# EAGLE library part AD5241BRZ1M (library AD5241BRZ1M)
I2C Compatible Digital Potentiometer Check prices <https://pricing.snapeda.com/parts/AD5241BRZ1M/Analog%20Devices/view-part?ref=eda>
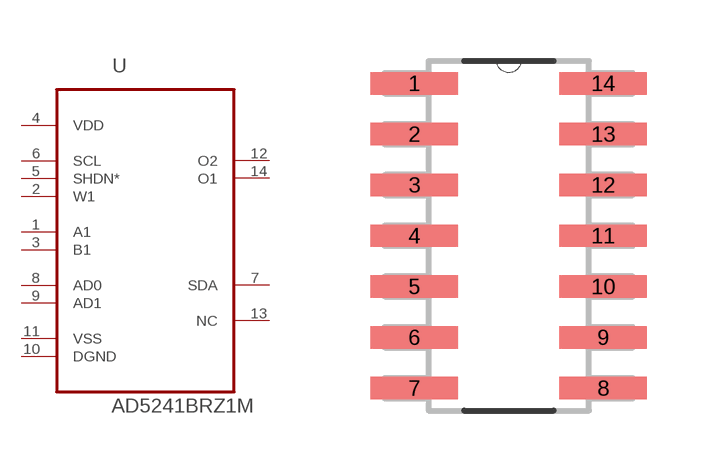
[diagram p0: symbol with the pads of SOIC127P600X175-14N; footprint SOIC127P600X175-14N]

Designator prefix U

## AD5241BRZ1M (Availability: Good; Description: Digital Potentiometer 1M Ohm 1 Circuit 256 Taps I²C Interface 14-SOIC; MF: Analog Devices; MP: AD5241BRZ1M; Package: SOIC-14 Analog Devices; Price: None; Purchase-URL: https://pricing.snapeda.com/search/part/AD5241BRZ1M/?ref=eda)  [SOIC127P600X175-14N]
1  A1  pas
2  W1  pas
3  B1  pas
4  VDD  pwr
5  SHDN*  pas
6  SCL  pas
7  SDA  pas
8  AD0  pas
9  AD1  pas
10  DGND  pas
11  VSS  pwr
12  O2  pas
13  NC  pas
14  O1  pas

## Footprint SOIC127P600X175-14N (pad centres in mm)
smd 2.184 x 0.559: 1 -2.362,3.81; 2 -2.362,2.54; 3 -2.362,1.27; 4 -2.362,0; 5 -2.362,-1.27; 6 -2.362,-2.54; 7 -2.362,-3.81; 8 2.362,-3.81; 9 2.362,-2.54; 10 2.362,-1.27; 11 2.362,0; 12 2.362,1.27; 13 2.362,2.54; 14 2.362,3.81